# EAGLE library part M95010-WMN6P (library eeprom)
M95010-WMN6P, Serial EEPROM Memory 1kbit, Serial-SPI, 35ns 2.5 5.5 V, 8-Pin SOIC Source: Datasheet <http://www.st.com/st-web-ui/static/active/en/resource/technical/document/datasheet/CD00001755.pdf>
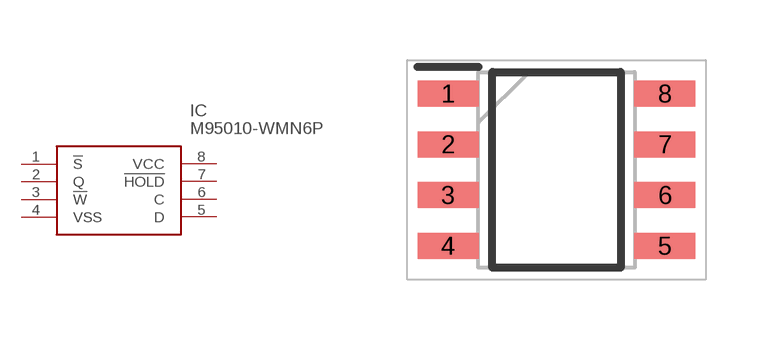
[diagram p1: symbol with the pads of SOIC127P600X175-8N; footprint SOIC127P600X175-8N]

Designator prefix IC

## M95010-WMN6P (ALLIED_NUMBER: 70389563; ALLIED_PRICE-STOCK: http://www.alliedelec.com/stmicroelectronics-m95010-wmn6p/70389563/; DESCRIPTION: M95010-WMN6P, Serial EEPROM Memory 1kbit, Serial-SPI, 35ns 2.5 5.5 V, 8-Pin SOIC; HEIGHT: 1.75mm; MANUFACTURER_NAME: STMicroelectronics; MANUFACTURER_PART_NUMBER: M95010-WMN6P; MOUSER_PART_NUMBER: 511-M95010-WMN6P; MOUSER_PRICE-STOCK: https://www.mouser.com/Search/Refine.aspx?Keyword=511-M95010-WMN6P; RS_PART_NUMBER: 7147617; RS_PRICE-STOCK: http://uk.rs-online.com/web/p/eeprom-memory-chips/7147617/?source=DS)  [SOIC127P600X175-8N]
1  !S
2  Q  out
3  !W
4  VSS  pwr
5  D  in
6  C
7  !HOLD
8  VCC  pwr

## Footprint SOIC127P600X175-8N (pad centres in mm)
SO8 (150 mils width)
smd 1.525 x 0.65: 1 -2.712,1.905; 2 -2.712,0.635; 3 -2.712,-0.635; 4 -2.712,-1.905; 5 2.712,-1.905; 6 2.712,-0.635; 7 2.712,0.635; 8 2.712,1.905